# Altium footprint library WPME-CDIS.PcbLib: 4 footprints
Each footprint in its own frame and in the unit in brackets; x right, y up, seen from the top. Pads: shape width x height; smd on the part's side, far side on the other; paste and mask are expansions set on the pad; w line width, h text height; cw(c..) or ccw(c..) is an arc to the next point about the centre after c.
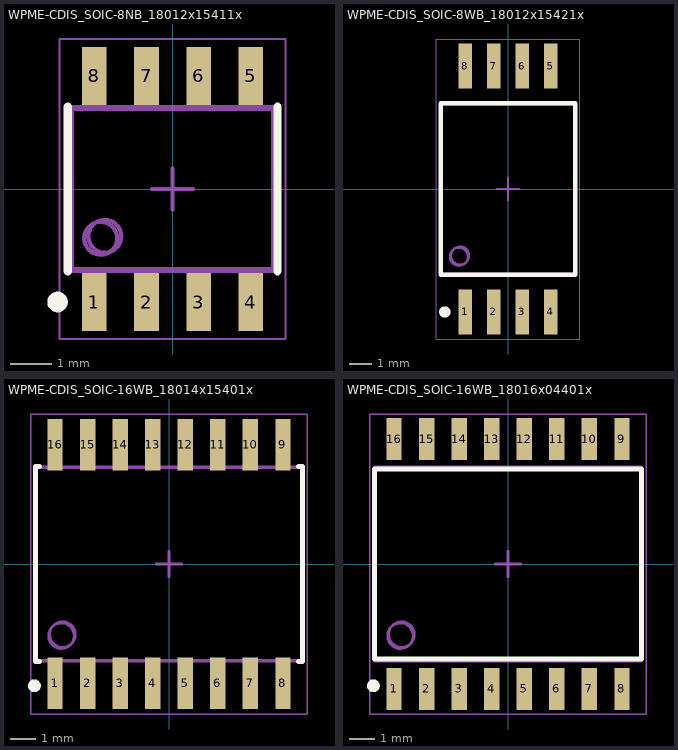
[diagram p0: the footprints below, top view; thin cyan lines are the x and y axes]

## WPME-CDIS_SOIC-8NB_18012x15411x [mm] "Digital Isolator, SOIC-8NB"
height 1.8
pads (8):
  rect 0.6x1.4 smd: 1(-1.905,-2.75) 2(-0.635,-2.75) 3(0.635,-2.75) 4(1.905,-2.75) 5(1.905,2.75) 6(0.635,2.75) 7(-0.635,2.75) 8(-1.905,2.75)
Top Overlay:
  circle w0.25: c-2.8,-2.75 r0.125
  lines w0.2: -2.55,-2 -2.55,2 ; 2.55,-2 2.55,2
Top Assembly:
  circle w0.1: c-1.75,-1.2 r0.4
  lines w0.1: -2.55,-2 -2.55,2 2.55,2 2.55,-2 -2.55,-2
Top Designator:
  text ".Designator" at -3.647,-0.357 h1
Top 3D Body:
  circle w0.1: c-1.65,-1.15 r0.4
  lines w0.1: -2.45,-1.95 2.45,-1.95 2.45,1.95 -2.45,1.95 -2.45,-1.95
Top Courtyard:
  lines w0.05: -2.75,-3.65 -2.75,3.65 2.75,3.65 2.75,-3.65 -2.75,-3.65
Top Component Center:
  lines w0.1: -0.5,0 0.5,0 ; 0,-0.5 0,0.5
3D body "18012x15411x.stp": height 1.8, standoff 0, extent -2.45,-3 2.45,3

## WPME-CDIS_SOIC-8WB_18012x15421x [mm] "Digital Isolator, WPME-CDIS_SOIC-8WB"
height 2.8
pads (8):
  rect 0.6x2 smd: 1(-1.905,-5.45) 2(-0.635,-5.45) 3(0.635,-5.45) 4(1.905,-5.45) 5(1.905,5.45) 6(0.635,5.45) 7(-0.635,5.45) 8(-1.905,5.45)
Top Overlay:
  circle w0.25: c-2.8,-5.45 r0.125
  lines w0.2: -2.975,-3.8 2.975,-3.8 2.975,3.8 -2.975,3.8 -2.975,-3.8
Top Assembly:
  circle w0.1: c-2.175,-3 r0.4
  lines w0.1: -2.975,-3.8 2.975,-3.8 2.975,3.8 -2.975,3.8 -2.975,-3.8
Top Designator:
  text ".Designator" at -3.647,-0.357 h1
Top 3D Body:
  circle w0.1: c-2.125,-2.95 r0.4
  lines w0.1: -2.925,-3.75 -2.925,3.75 2.925,3.75 2.925,-3.75 -2.925,-3.75
Top Courtyard:
  lines w0.05: -3.175,-6.65 3.175,-6.65 3.175,6.65 -3.175,6.65 -3.175,-6.65
Top Component Center:
  lines w0.1: -0.5,0 0.5,0 ; 0,-0.5 0,0.5
3D body "18012x15421x.stp": height 2.7, standoff 0, extent -2.925,-5.75 2.925,5.75

## WPME-CDIS_SOIC-16WB_18014x15401x [mm] "Digital Isolator, SOIC-16WB"
height 2.65
pads (16):
  rect 0.6x2 smd: 1(-4.445,-4.65) 2(-3.175,-4.65) 3(-1.905,-4.65) 4(-0.635,-4.65) 5(0.635,-4.65) 6(1.905,-4.65) 7(3.175,-4.65) 8(4.445,-4.65) 9(4.445,4.65) 10(3.175,4.65) 11(1.905,4.65) 12(0.635,4.65) 13(-0.635,4.65) 14(-1.905,4.65) 15(-3.175,4.65) 16(-4.445,4.65)
Top Overlay:
  circle w0.25: c-5.25,-4.75 r0.125
  lines w0.2: -5.05,-3.8 -5.2,-3.8 -5.2,3.8 -5.05,3.8 ; 5.05,-3.8 5.2,-3.8 5.2,3.8 5.05,3.8
Top Assembly:
  circle w0.1: c-4.2,-2.8 r0.5
  lines w0.1: -5.2,-3.8 -5.2,3.8 5.2,3.8 5.2,-3.8 -5.2,-3.8
Top Designator:
  text ".Designator" at -3.647,-0.357 h1
Top 3D Body:
  circle w0.1: c-4.15,-2.75 r0.5
  lines w0.1: -5.15,-3.75 -5.15,3.75 5.15,3.75 5.15,-3.75 -5.15,-3.75
Top Courtyard:
  lines w0.05: -5.4,-5.85 -5.4,5.85 5.4,5.85 5.4,-5.85 -5.4,-5.85
Top Component Center:
  lines w0.1: -0.5,0 0.5,0 ; 0,-0.5 0,0.5
3D body "CDIS_18014x15401x (rev1).stp": height 2.5, standoff 0, extent -5.15,-5.15 5.15,5.15

## WPME-CDIS_SOIC-16WB_18016x04401x [mm] "Digital Isolator, SOIC-16WB"
height 2.65
pads (16):
  rect 0.6x1.65 smd: 1(-4.445,-4.875) 2(-3.175,-4.875) 3(-1.905,-4.875) 4(-0.635,-4.875) 5(0.635,-4.875) 6(1.905,-4.875) 7(3.175,-4.875) 8(4.445,-4.875) 9(4.445,4.875) 10(3.175,4.875) 11(1.905,4.875) 12(0.635,4.875) 13(-0.635,4.875) 14(-1.905,4.875) 15(-3.175,4.875) 16(-4.445,4.875)
Top Overlay:
  circle w0.25: c-5.25,-4.75 r0.125
  lines w0.2: -5.2,-3.7 5.2,-3.7 5.2,3.7 -5.2,3.7 -5.2,-3.7
Top Assembly:
  circle w0.1: c-4.2,-2.8 r0.5
  lines w0.1: -5.2,-3.8 -5.2,3.8 5.2,3.8 5.2,-3.8 -5.2,-3.8
Top Designator:
  text ".Designator" at -3.647,-0.357 h1
Top 3D Body:
  circle w0.1: c-4.15,-2.75 r0.5
  lines w0.1: -5.15,-3.75 -5.15,3.75 5.15,3.75 5.15,-3.75 -5.15,-3.75
Top Courtyard:
  lines w0.05: -5.4,-5.85 -5.4,5.85 5.4,5.85 5.4,-5.85 -5.4,-5.85
Top Component Center:
  lines w0.1: -0.5,0 0.5,0 ; 0,-0.5 0,0.5
3D body "18016x04401x.stp": height 2.5, standoff 0, extent -5.15,-5.15 5.15,5.15